# EAGLE library part T5-844 (library transformer-trigger)
Horizontal, 0.5" Diameter, 6 pins 1 Primary of 8 spires 2 Secondary of 4 spires
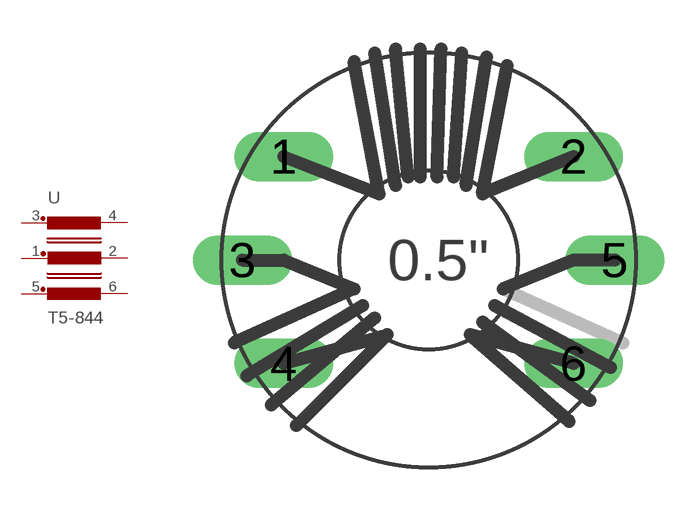
[diagram p0: symbol with the pads of 500-8-4-4; footprint 500-8-4-4]

Designator prefix -

## T5-844  [500-8-4-4]
1  W1A  pas
2  W1E  pas
3  W2A  pas
4  W2E  pas
5  W3A  pas
6  W3E  pas

## Footprint 500-8-4-4 (pad centres in mm)
drill 1.016 long: 1 -4.445,3.175; 2 4.445,3.175; 3 -5.715,0; 4 -4.445,-3.175; 5 5.715,0; 6 4.445,-3.175